# EAGLE library part MP2307 (library CHIP_PRO_Dev-Kit-v0.1)
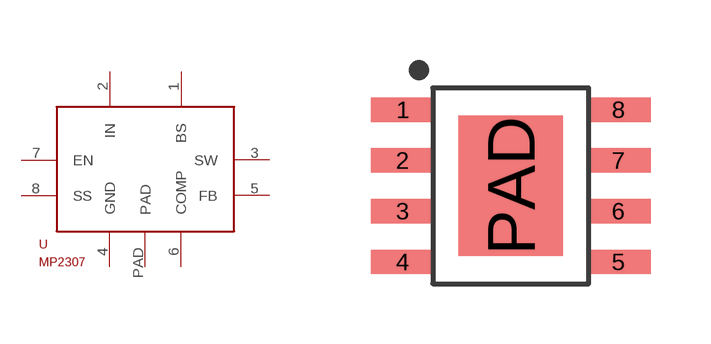
[diagram p7: symbol with the pads of SOIC-8-PAD; footprint SOIC-8-PAD]

Designator prefix -

## MP2307  [SOIC-8-PAD]
1  BS
2  IN
3  SW
4  GND
5  FB
6  COMP
7  EN
8  SS
PAD  PAD

## Footprint SOIC-8-PAD (pad centres in mm)
smd 1.6 x 0.61: 1 -2.7,1.905; 2 -2.7,0.635; 3 -2.7,-0.635; 4 -2.7,-1.905; 5 2.7,-1.905; 6 2.7,-0.635; 7 2.7,0.635; 8 2.7,1.905
smd 2.62 x 3.51: PAD 0,0